# EAGLE library part MSS4200RG (library User-Submitted)
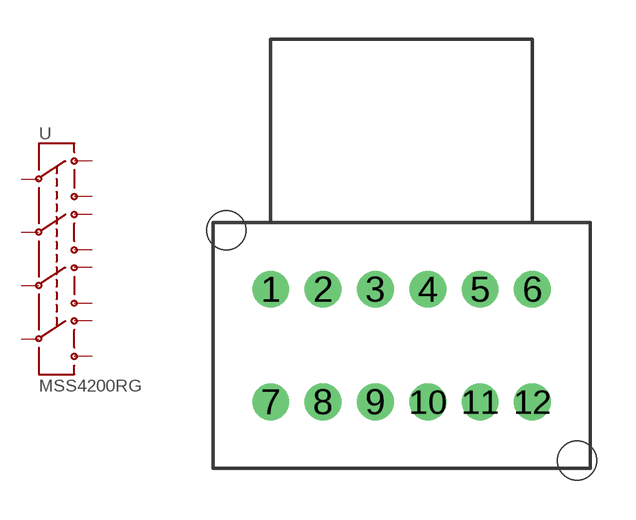
[diagram p36: symbol with the pads of MSS4200RG; footprint MSS4200RG]

Designator prefix -

## MSS4200RG  [MSS4200RG]
1  1
2  2
3  3
4  4
5  5
6  6
7  7
8  8
9  9
10  10
11  11
12  12

## Footprint MSS4200RG (pad centres in mm)
drill 0.9: 1 -5,2.15; 2 -3,2.15; 3 -1,2.15; 4 1,2.15; 5 3,2.15; 6 5,2.15; 7 -5,-2.15; 8 -3,-2.15; 9 -1,-2.15; 10 1,-2.15; 11 3,-2.15; 12 5,-2.15
hole 1.5 at -6.7,4.4
hole 1.5 at 6.7,-4.4